# Altium schematic symbol library backup_connector.SchLib: 1 symbol
Pins are listed as number, name and electrical type; pins without a type are passive.

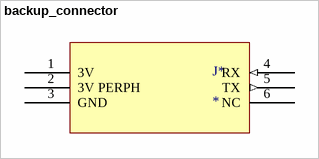
[diagram p0: symbol backup_connector]

## backup_connector
designator J*
footprint backup_connector
pins: 1 3V (power), 2 3V PERPH, 3 GND, 4 RX (in), 5 TX (out), 6 NC